# Altium footprint library C514175.PcbLib: 1 footprints
Each footprint in its own frame and in the unit in brackets; x right, y up, seen from the top. Pads: shape width x height; smd on the part's side, far side on the other; paste and mask are expansions set on the pad; w line width, h text height; cw(c..) or ccw(c..) is an arc to the next point about the centre after c.
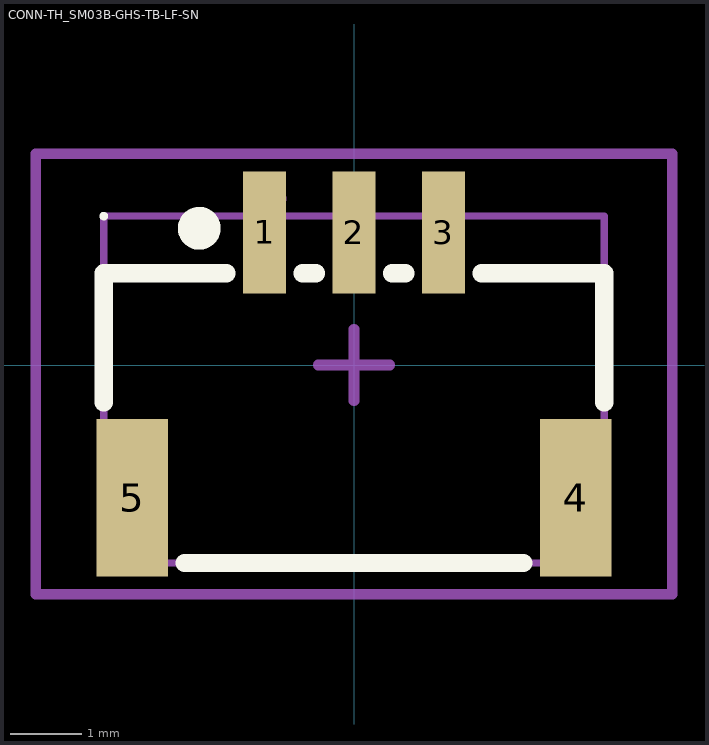
[diagram p0: the footprint, top view; thin cyan lines are the x and y axes]

## CONN-TH_SM03B-GHS-TB-LF-SN [mm] "Connector Header 3 position 1.25mm Pitch 1A Surface Mount, Right Angle -25?~+85?"
pads (5):
  rect 0.6x1.7 smd: 1(-1.25,1.854) 2(0,1.854) 3(1.25,1.854)
  rect 1x2.2 smd: 4(3.1,-1.854) 5(-3.1,-1.854)
Top Overlay:
  circle w0.06: c-3.5,2.083 r0.03
  circle w0.3: c-2.164,1.913 r0.15
  lines w0.254: -3.5,-0.523 -3.5,1.283 -1.781,1.283 ; -2.369,-2.767 2.369,-2.767 ; -0.719,1.283 -0.531,1.283 ; 0.531,1.283 0.719,1.283 ; 1.781,1.283 3.5,1.283 3.5,-0.523
AOI:
  circle w0.3: c-1.247,2.327 r0.15
  region: -1.35,1.083 -1.35,2.083 -1.15,2.083 -1.15,1.083
  region: -0.1,1.083 -0.1,2.083 0.1,2.083 0.1,1.083
  region: 1.15,1.083 1.15,2.083 1.35,2.083 1.35,1.083
  region: 2.9,-0.941 3.1,-0.941 3.1,-2.767 2.9,-2.767
  region: -3.1,-0.941 -2.9,-0.941 -2.9,-2.767 -3.1,-2.767
Top 3D Body:
  lines w0.1: -3.5,-2.767 3.5,-2.767 3.5,2.083 -3.5,2.083 -3.5,-2.767
Top Courtyard:
  lines w0.15: -0.5,0 0.5,0 ; 0,-0.5 0,0.5 ; -4.45,-3.204 4.45,-3.204 4.45,2.954 -4.45,2.954 -4.45,-3.204
3D body "CONN-TH_SM03B-GHS-TB-LF-SN.step": height 0.03, standoff 0, extent -3.5,-2.767 3.5,2.083